# EAGLE library part SPARKFUN-DIGITALIC_W25Q32FV (library duckypad)
Winbond W25Q32FV 32Mbit (4MB) Flash The W25Q32FV support the standard Serial Peripheral Interface (SPI), Dual/Quad I/O SPI as well as 2-clocks instruction cycle Quad Peripheral Interface (QPI). Datasheet <http://www.winbond.com/resource-files/w25q32fv%20revh%20091613.pdf>
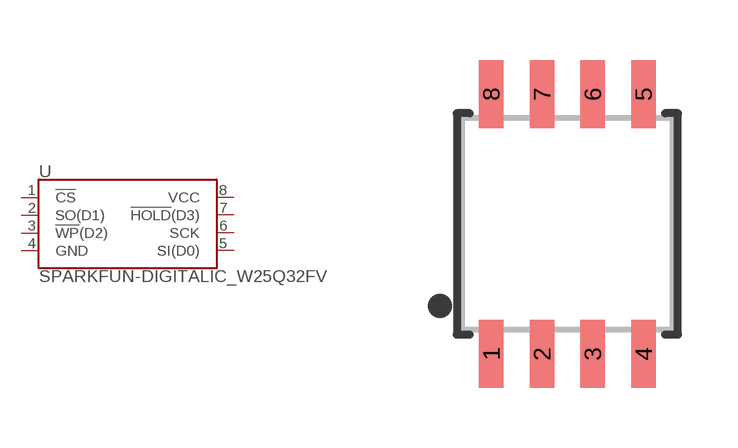
[diagram p1: symbol with the pads of SPARKFUN-DIGITALIC_SOIC-8; footprint SPARKFUN-DIGITALIC_SOIC-8]

Designator prefix U

## SPARKFUN-DIGITALIC_W25Q32FVSS (PROD_ID: IC-13229)  [SPARKFUN-DIGITALIC_SOIC-8]
1  !CS!
2  SO(D1)
3  !WP!(D2)
4  GND
5  SI(D0)
6  SCK
7  !HOLD!(D3)
8  VCC

## Footprint SPARKFUN-DIGITALIC_SOIC-8 (pad centres in mm)
8-Pin SOIC 208-mil
smd 0.61 x 1.702: 1 -1.905,-3.251; 2 -0.635,-3.251; 3 0.635,-3.251; 4 1.905,-3.251; 5 1.905,3.251; 6 0.635,3.251; 7 -0.635,3.251; 8 -1.905,3.251